# Altium footprint library Battery&Holders.PcbLib: 20 footprints (part 2 of 2)
Each footprint in its own frame and in the unit in brackets; x right, y up, seen from the top. Pads: shape width x height; smd on the part's side, far side on the other; paste and mask are expansions set on the pad; w line width, h text height; cw(c..) or ccw(c..) is an arc to the next point about the centre after c.
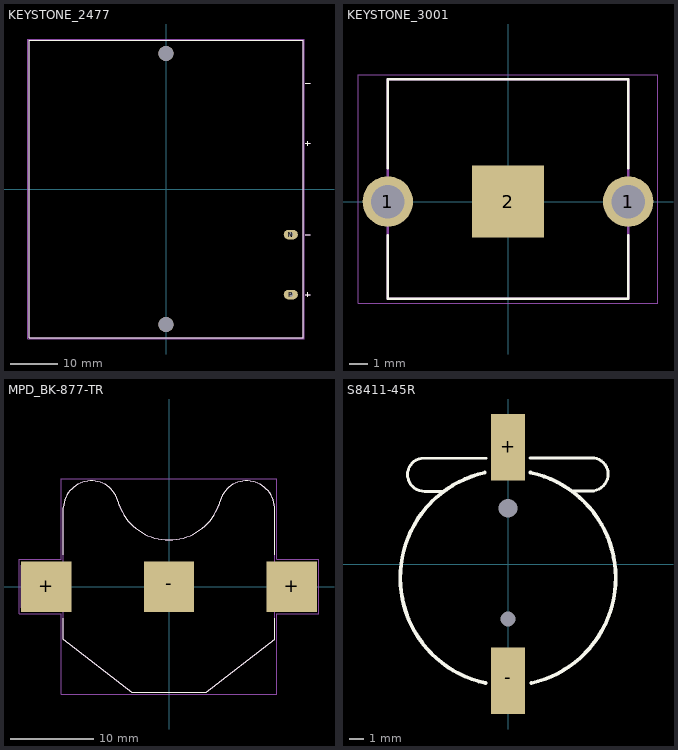
[diagram p1: the footprints below, top view; thin cyan lines are the x and y axes]

## KEYSTONE_2477 [mm]
pads (4):
  oval 3x2 hole 1.02: N(26.405,-9.65) P(26.405,-22.35)
  round 3.18 hole 3.18 unplated: ""(-0.015,-28.7) ""(-0.015,28.7)
Top Overlay:
  lines w0.127: 29.495,-22.35 30.495,-22.35 ; 29.495,-9.65 30.495,-9.65 ; 29.495,9.65 30.495,9.65 ; 29.495,22.35 30.495,22.35 ; 29.995,-22.85 29.995,-21.85 ; 29.995,9.15 29.995,10.15 ; -28.995,-31.495 -28.995,31.495 28.995,31.495 28.995,-31.495 -28.995,-31.495
Mechanical 13:
  lines w0.127: 29.495,-22.35 30.495,-22.35 ; 29.495,-9.65 30.495,-9.65 ; 29.495,9.65 30.495,9.65 ; 29.495,22.35 30.495,22.35 ; 29.995,-22.85 29.995,-21.85 ; 29.995,9.15 29.995,10.15 ; -28.995,-31.495 28.995,-31.495 28.995,31.495 -28.995,31.495 -28.995,-31.495
Mechanical 15:
  lines w0.05: -29.245,-31.745 29.245,-31.745 29.245,31.745 -29.245,31.745 -29.245,-31.745
3D body "EN91--3DModel-STEP-269445.STEP": height 16, standoff 2, extent -25,16.02 25,29.98
3D body "EN91--3DModel-STEP-269445.STEP": height 16, standoff 2, extent -25,0.52 25,14.48
3D body "EN91--3DModel-STEP-269445.STEP": height 16, standoff 2, extent -25,-14.48 25,-0.52
3D body "EN91--3DModel-STEP-269445.STEP": height 16, standoff 2, extent -25,-29.98 25,-16.02
3D body "2477.step": height 16.08, standoff -11.81, extent -29.199,-31.495 29.176,31.495

## KEYSTONE_3001 [mm] "BATT RETAINER COIN 12MM PC PIN"
height 6.22
pads (3):
  round 2.775 hole 1.85: 1(-6.605,0) 1(6.605,0)
  rect 3.96x3.96 smd paste-0.209: 2(0,0)
Top Overlay:
  lines w0.127: -6.605,-1.843 -6.605,-5.34 6.605,-5.34 6.605,-1.843 ; -6.605,1.843 -6.605,6.73 6.605,6.73 6.605,1.843
Mechanical 13:
  lines w0.127: -6.605,-5.34 -6.605,6.73 6.605,6.73 6.605,-5.34 -6.605,-5.34
Mechanical 15:
  lines w0.05: -8.243,-5.59 8.243,-5.59 8.243,6.98 -8.243,6.98 -8.243,-5.59
3D body "3001--3DModel-STEP-630548.STEP": height 3.05, standoff -2.21, extent -7.432,-5.337 7.432,6.722

## MPD_BK-877-TR [mm] "BATT RETAIN COIN 24.5MM 1CEL SMD"
pads (3):
  rect 6.07x6.07 smd: +(-14.745,0) +(14.745,0)
  rect 6.07x6.07 smd paste-0.32: -(0,0)
Top Overlay:
  lines w0.127: -12.7,-3.81 -12.7,-6.35 -4.5,-12.7 4.5,-12.7 12.7,-6.35 12.7,-3.81 ; -12.7,3.81 -12.7,9.5 ; -12.7,9.504 cw(c-9.336,9.327) -5.999,9.796 ; -6,9.8 ccw(c0,11.984) 6,9.8 ; 5.999,9.796 cw(c9.336,9.327) 12.7,9.504 ; 12.7,3.81 12.7,9.5
Mechanical 13:
  lines w0.127: -12.7,9.5 -12.7,2.54 -17.78,2.54 -17.78,-2.54 -12.7,-2.54 -12.7,-6.35 -4.5,-12.7 4.5,-12.7 12.7,-6.35 12.7,-2.54 17.78,-2.54 17.78,2.54 12.7,2.54 12.7,9.5 ; -12.7,9.504 cw(c-9.336,9.327) -5.999,9.796 ; -6,9.8 ccw(c0,11.984) 6,9.8 ; 5.999,9.796 cw(c9.336,9.327) 12.7,9.504
Mechanical 15:
  lines w0.05: -18.03,-3.285 -18.03,3.285 -12.95,3.285 -12.95,12.95 12.95,12.95 12.95,3.285 18.03,3.285 18.03,-3.285 12.95,-3.285 12.95,-12.95 -12.95,-12.95 -12.95,-3.285 -18.03,-3.285
3D body "BK-877.STEP": height 5.94, standoff 0.1, extent -17.78,-12.7 17.78,12.7

## S8411-45R [mm]
pads (4):
  rect 2.3x4.5 smd: +(0,7.874) -(0,-7.874)
  round 0 hole 1 unplated: S(0,-3.708)
  round 0 hole 1.25 unplated: S(0,3.759)
Top Overlay:
  lines w0.2: -4.293,4.902 -5.639,4.902 cw(c-5.639,6.045) -6.782,6.045 cw(c-5.69,6.045) -5.69,7.137 -4.667,7.137 -1.499,7.137 ; 1.473,7.163 4.641,7.163 5.664,7.163 cw(c5.664,6.071) 6.756,6.071 cw(c5.613,6.071) 5.613,4.928 4.267,4.928
  lines w0.254: -1.566,6.168 ccw(c0,-0.93) -1.52,-8.037 ; 1.52,6.168 cw(c0,-0.94) 1.566,-8.037
3D body "s8411-45r_asm.stp": height 4.25, standoff -1, extent -7.374,-9.802 7.374,9.398